# Altium footprint library CAPPM7343X310N.PcbLib: 1 footprints
Each footprint in its own frame and in the unit in brackets; x right, y up, seen from the top. Pads: shape width x height; smd on the part's side, far side on the other; paste and mask are expansions set on the pad; w line width, h text height; cw(c..) or ccw(c..) is an arc to the next point about the centre after c.
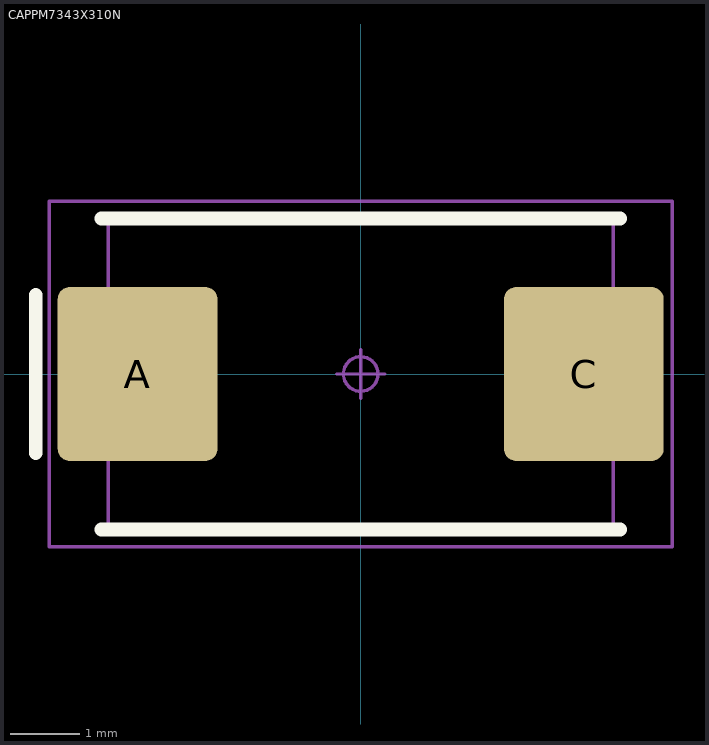
[diagram p0: the footprint, top view; thin cyan lines are the x and y axes]

## CAPPM7343X310N [mm]
pads (2):
  rrect15% 2.31x2.52 smd mask+0.05: A(-3.227,0) C(3.227,0)
Top Overlay:
  lines w0.2: -4.699,-1.143 -4.699,1.143 ; -3.75,-2.25 3.75,-2.25 ; -3.75,2.25 3.75,2.25
Mechanical 11:
  lines w0.05: -3.65,-2.25 3.65,-2.25 3.65,2.25 -3.65,2.25 -3.65,-2.25
Mechanical 15:
  circle w0.05: c0,0 r0.25
  lines w0.05: -0.35,0 0.35,0 ; 0,-0.35 0,0.35 ; -4.505,-2.5 -4.505,2.5 4.505,2.5 4.505,-2.5 -4.505,-2.5
3D body "293D226X9035E2TE3.STEP": height 3.1, standoff 0, extent -3.65,-2.15 3.65,2.15